# EAGLE library part HC-05 (library BaseApp)
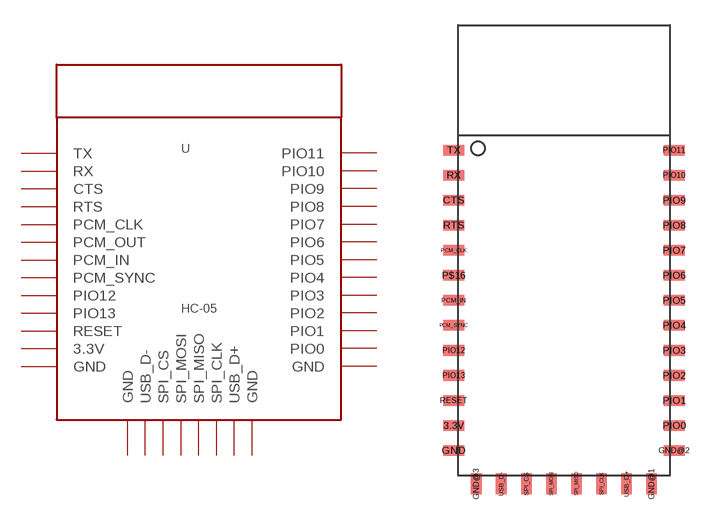
[diagram p69: symbol with the pads of HC-05; footprint HC-05]

Designator prefix -

## HC-05  [HC-05]
3.3V  3.3V
CTS  CTS
GND  GND
GND@1  GND
GND@2  GND
GND@3  GND
P$16  PCM_CLK
PCM_CLK  PCM_IN
PCM_IN  PCM_OUT
PCM_SYNC  PCM_SYNC
PIO0  PIO0
PIO1  PIO1
PIO2  PIO2
PIO3  PIO3
PIO4  PIO4
PIO5  PIO5
PIO6  PIO6
PIO7  PIO7
PIO8  PIO8
PIO9  PIO9
PIO10  PIO10
PIO11  PIO11
PIO12  PIO12
PIO13  PIO13
RESET  RESET
RTS  RTS
RX  RX
SPI_CLK  SPI_CLK
SPI_CS  SPI_CS
SPI_MISO  SPI_MISO
SPI_MOSI  SPI_MOSI
TX  TX
USB_D+  USB_D+
USB_D-  USB_D-

## Footprint HC-05 (pad centres in mm)
smd 1.27 x 0.635: 3.3V -0.25,3; CTS -0.25,16.5; GND -0.25,1.5; GND@2 12.95,1.5; P$16 -0.25,12; PCM_CLK -0.25,13.5; PCM_IN -0.25,10.5; PCM_SYNC -0.25,9; PIO0 12.95,3; PIO1 12.95,4.5; PIO2 12.95,6; PIO3 12.95,7.5; PIO4 12.95,9; PIO5 12.95,10.5; PIO6 12.95,12; PIO7 12.95,13.5; PIO8 12.95,15; PIO9 12.95,16.5; PIO10 12.95,18; PIO11 12.95,19.5; PIO12 -0.25,7.5; PIO13 -0.25,6; RESET -0.25,4.5; RTS -0.25,15; RX -0.25,18; TX -0.25,19.5
smd 0.635 x 1.27: GND@1 11.6,-0.5; GND@3 1.1,-0.5; SPI_CLK 8.6,-0.5; SPI_CS 4.1,-0.5; SPI_MISO 7.1,-0.5; SPI_MOSI 5.6,-0.5; USB_D+ 10.1,-0.5; USB_D- 2.6,-0.5